# Altium schematic symbol library Mech,Hole,M3,3mm,Plated.Schlib: 1 symbol
Pins are listed as number, name and electrical type; pins without a type are passive.

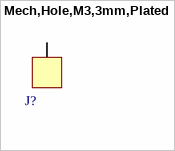
[diagram p0: symbol Mech,Hole,M3,3mm,Plated]

## Mech,Hole,M3,3mm,Plated
designator J?  (no BOM)
pins: 0 PIN